# EAGLE library part CC3200MODR1M2AMOBR (library NetGeeks)
SimpleLink™ Wi-Fi® and Internet-of-Things Module Solution, a Single-Chip Wireless MCU Source: Datasheet <http://www.ti.com/lit/gpn/cc3200mod>
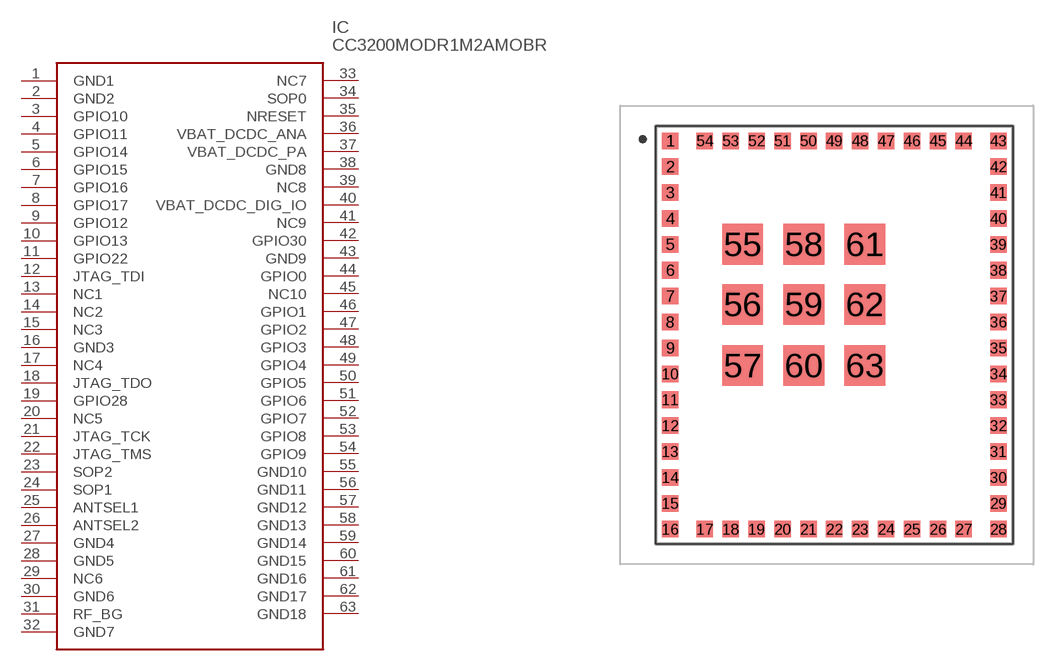
[diagram p0: symbol with the pads of CC3200MODR1M2AMOBR; footprint CC3200MODR1M2AMOBR]

Designator prefix IC

## CC3200MODR1M2AMOBR (Arrow_Part_Number: CC3200MODR1M2AMOBR; Arrow_Price/Stock: https://www.arrow.com/en/products/cc3200modr1m2amobr/texas-instruments; Description: SimpleLink&#153; Wi-Fi&#174; and Internet-of-Things Module Solution, a Single-Chip Wireless MCU; Height: mm; Manufacturer_Name: Texas Instruments; Manufacturer_Part_Number: CC3200MODR1M2AMOBR)  [CC3200MODR1M2AMOBR]
1  GND1
2  GND2
3  GPIO10
4  GPIO11
5  GPIO14
6  GPIO15
7  GPIO16
8  GPIO17
9  GPIO12
10  GPIO13
11  GPIO22
12  JTAG_TDI
13  NC1
14  NC2
15  NC3
16  GND3
17  NC4
18  JTAG_TDO
19  GPIO28
20  NC5
21  JTAG_TCK
22  JTAG_TMS
23  SOP2
24  SOP1
25  ANTSEL1
26  ANTSEL2
27  GND4
28  GND5
29  NC6
30  GND6
31  RF_BG
32  GND7
33  NC7
34  SOP0
35  NRESET
36  VBAT_DCDC_ANA
37  VBAT_DCDC_PA
38  GND8
39  NC8
40  VBAT_DCDC_DIG_IO
41  NC9
42  GPIO30
43  GND9
44  GPIO0
45  NC10
46  GPIO1
47  GPIO2
48  GPIO3
49  GPIO4
50  GPIO5
51  GPIO6
52  GPIO7
53  GPIO8
54  GPIO9
55  GND10
56  GND11
57  GND12
58  GND13
59  GND14
60  GND15
61  GND16
62  GND17
63  GND18

## Footprint CC3200MODR1M2AMOBR (pad centres in mm)
MOB0063A
smd 0.81 x 0.81: 1 -8.05,9.525; 2 -8.05,8.255; 3 -8.05,6.985; 4 -8.05,5.715; 5 -8.05,4.445; 6 -8.05,3.175; 7 -8.05,1.905; 8 -8.05,0.635; 9 -8.05,-0.635; 10 -8.05,-1.905; 11 -8.05,-3.175; 12 -8.05,-4.445; 13 -8.05,-5.715; 14 -8.05,-6.985; 15 -8.05,-8.255; 16 -8.05,-9.525; 17 -6.35,-9.525; 18 -5.08,-9.525; 19 -3.81,-9.525; 20 -2.54,-9.525; 21 -1.27,-9.525; 22 0,-9.525; 23 1.27,-9.525; 24 2.54,-9.525; 25 3.81,-9.525; 26 5.08,-9.525; 27 6.35,-9.525; 28 8.05,-9.525; 29 8.05,-8.255; 30 8.05,-6.985; 31 8.05,-5.715; 32 8.05,-4.445; 33 8.05,-3.175; 34 8.05,-1.905; 35 8.05,-0.635; 36 8.05,0.635; 37 8.05,1.905; 38 8.05,3.175; 39 8.05,4.445; 40 8.05,5.715; 41 8.05,6.985; 42 8.05,8.255; 43 8.05,9.525; 44 6.35,9.525; 45 5.08,9.525; 46 3.81,9.525; 47 2.54,9.525; 48 1.27,9.525; 49 0,9.525; 50 -1.27,9.525; 51 -2.54,9.525; 52 -3.81,9.525; 53 -5.08,9.525; 54 -6.35,9.525
smd 2 x 2: 55 -4.5,4.445; 56 -4.5,1.5; 57 -4.5,-1.5; 58 -1.5,4.445; 59 -1.5,1.5; 60 -1.5,-1.5; 61 1.5,4.445; 62 1.5,1.5; 63 1.5,-1.5